# Altium footprint library Connector_Audio.PcbLib: 212 footprints (part 13 of 14)
Each footprint in its own frame and in the unit in brackets; x right, y up, seen from the top. Pads: shape width x height; smd on the part's side, far side on the other; paste and mask are expansions set on the pad; w line width, h text height; cw(c..) or ccw(c..) is an arc to the next point about the centre after c.
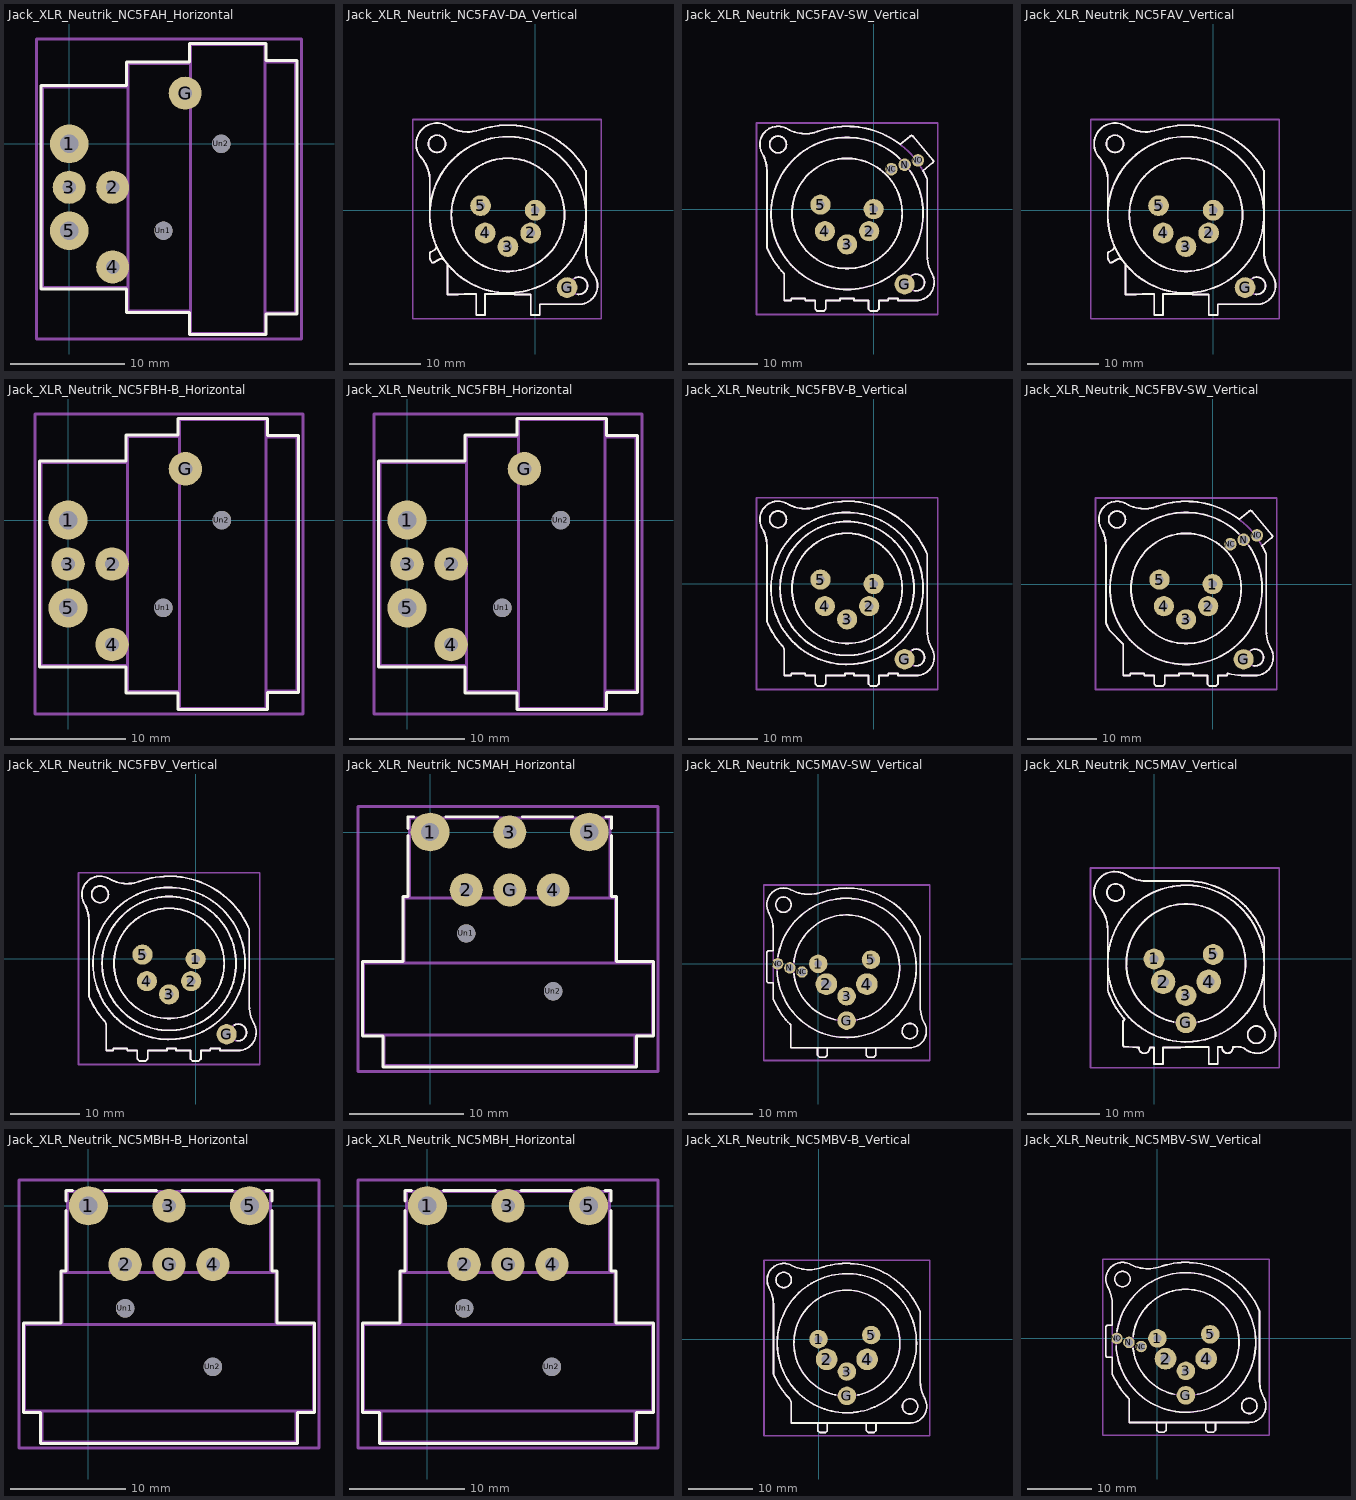
[diagram p12: the footprints below, top view; thin cyan lines are the x and y axes]

## Jack_XLR_Neutrik_NC5FAH_Horizontal [mm]
pads (8):
  round 3.4 hole 1.6: 1(0,0) 5(0,-7.62)
  round 2.9 hole 1.2: 2(3.815,-3.81) 3(0,-3.81) 4(3.815,-10.79) G(10.17,4.44)
  round 1.6 hole 1.6: Un1(8.26,-7.62) Un2(13.34,0)
F.SilkS:
  lines w0.254: -2.47,-12.73 5.03,-12.73 5.03,-14.78 10.53,-14.78 10.53,-16.73 17.27,-16.73 17.27,-14.93 19.97,-14.93 19.97,7.31 17.27,7.31 17.27,8.81 10.53,8.81 10.53,7.16 5.03,7.16 5.03,5.11 -2.47,5.11 -2.47,-12.73
Top Assembly:
  lines w0.254: 5.15,-12.61 -2.35,-12.61 -2.35,4.99 5.15,4.99 ; 10.65,-14.66 5.15,-14.66 5.15,7.04 10.65,7.04 ; 17.15,-14.81 19.85,-14.81 19.85,7.19 17.15,7.19 ; 10.65,-16.61 17.15,-16.61 17.15,8.69 10.65,8.69 10.65,-16.61
  text "'.Designator'" at 10.753,-4.65 h1
Top Courtyard:
  lines w0.254: -2.85,-17.11 20.35,-17.11 20.35,9.19 -2.85,9.19 -2.85,-17.11
Top Designator:
  text ".Designator" at 1.132,-4.468 h1.52
Dwgs.User:
  lines w0.254: 17.15,-16.61 17.15,8.69

## Jack_XLR_Neutrik_NC5FAV-DA_Vertical [mm]
pads (6):
  round 2.9 hole 1.2: 1(0,0) 2(-0.635,-3.175) 3(-3.81,-5.08) 4(-6.985,-3.175) 5(-7.62,0.635) G(4.445,-10.795)
F.SilkS:
  circle w0.254: c-3.81,-0.635 r10.9
  circle w0.254: c-3.81,-0.635 r7.9
  circle w0.254: c-13.71,9.265 r1.2
  lines w0.254: -15.929,7.386 cw(c-19.72,4.11) -14.71,4.13 -14.71,-0.635 ; -15.918,7.373 cw(c-13.71,9.26) -12.15,11.71 ccw(c-9.46,15.93) -10.874,11.13 ; -14.71,-6.01 -14.71,-6.7 ccw(c-14.53,-6.7) -14.683,-6.795 ; -14.71,-6.01 cw(c-14.515,-6.01) -14.61,-5.84 -14,-5.5 ccw(c-14.3,-5.09) -13.802,-4.991 ; -14.68,-6.8 -14.43,-7.24 ccw(c-14.27,-7.15) -14.16,-7.297 ; -14.16,-7.3 -13.27,-6.8 cw(c-13.08,-7.27) -12.722,-6.911 ; -12.268,-7.513 cw(c-12.4,-7.62) -12.23,-7.62 -12.23,-11.76 -10.73,-11.76 -9.89,-11.71 -8.24,-11.71 -8.24,-14.63 -6.99,-14.63 -6.99,-11.71 -3.73,-11.71 -2.89,-11.76 -0.63,-11.76 -0.63,-14.63 0.62,-14.63 0.62,-13.13 6.09,-13.13 ccw(c6.09,-10.53) 8.153,-8.947 ; -10.88,11.13 ccw(c-9.46,15.93) -8.788,10.97 ; -8.843,5.458 cw(c-3.81,-0.635) -5.38,7.11 ccw(c-3.81,-0.635) -6.456,6.812 ; -8.79,10.97 ccw(c-9.46,15.99) -7.954,11.155 ; -7.953,11.155 cw(c-3.81,-0.635) 7.06,5.53 ; -2.235,7.109 cw(c-3.81,-0.635) -1.16,6.81 ; 5.508,-9.483 cw(c6.09,-10.535) 5.86,-11.715 ; 7.056,5.537 cw(c6.87,5.42) 7.09,5.43 7.09,-5.87 ccw(c12.11,-5.86) 8.155,-8.952
Top Assembly:
  circle w0.254: c6.09,-10.535 r1.2
  circle w0.254: c-3.81,-0.635 r10.9
  circle w0.254: c-3.81,-0.635 r7.9
  circle w0.254: c-13.71,9.265 r1.2
  lines w0.254: -15.929,7.386 cw(c-19.72,4.11) -14.71,4.13 -14.71,-0.635 ; -15.918,7.373 cw(c-13.71,9.26) -12.15,11.71 ccw(c-9.46,15.93) -10.874,11.13 ; -14.71,-6.01 -14.71,-6.7 ccw(c-14.53,-6.7) -14.683,-6.795 ; -14.71,-6.01 cw(c-14.515,-6.01) -14.61,-5.84 -14,-5.5 ccw(c-14.3,-5.09) -13.802,-4.991 ; -14.68,-6.8 -14.43,-7.24 ccw(c-14.27,-7.15) -14.16,-7.297 ; -14.16,-7.3 -13.27,-6.8 cw(c-13.08,-7.27) -12.722,-6.911 ; -12.268,-7.513 cw(c-12.4,-7.62) -12.23,-7.62 -12.23,-11.76 -10.73,-11.76 -9.89,-11.71 -8.24,-11.71 -8.24,-14.63 -6.99,-14.63 -6.99,-11.71 -3.73,-11.71 -2.89,-11.76 -0.63,-11.76 -0.63,-14.63 0.62,-14.63 0.62,-13.13 6.09,-13.13 ccw(c6.09,-10.53) 8.153,-8.947 ; -10.88,11.13 ccw(c-9.46,15.93) -8.788,10.97 ; -8.843,5.458 cw(c-3.81,-0.635) -5.38,7.11 ccw(c-3.81,-0.635) -6.456,6.812 ; -8.79,10.97 ccw(c-9.46,15.99) -7.954,11.155 ; -7.953,11.155 cw(c-3.81,-0.635) 7.06,5.53 ; -2.235,7.109 cw(c-3.81,-0.635) -1.16,6.81 ; 7.056,5.537 cw(c6.87,5.42) 7.09,5.43 7.09,-5.87 ccw(c12.11,-5.86) 8.155,-8.952
  text "'.Designator'" at -7.857,-0.475 h1
Top Courtyard:
  lines w0.254: -17.1,-15.13 9.2,-15.13 9.2,12.65 -17.1,12.65 -17.1,-15.13
Top Designator:
  text ".Designator" at -11.568,-1.748 h1.52

## Jack_XLR_Neutrik_NC5FAV-SW_Vertical [mm]
pads (9):
  round 2.9 hole 1.2: 1(0,0) 2(-0.635,-3.175) 3(-3.81,-5.08) 4(-6.985,-3.175) 5(-7.62,0.635) G(4.445,-10.795)
  round 1.8 hole 1.2: N(4.445,6.35) NC(2.54,5.715) NO(6.35,6.985)
F.SilkS:
  circle w0.254: c-3.81,-0.635 r7.9
  circle w0.254: c-13.71,9.265 r1.2
  lines w0.254: -15.98,7.981 cw(c-13.71,9.26) -12.38,11.5 ccw(c-9.82,15.84) -8.091,11.107 ; -15.978,7.98 cw(c-20.32,5.48) -15.31,5.5 -15.31,-5.53 ccw(c-3.81,-0.635) -12.822,-9.295 ; -12.81,-9.31 -12.81,-13.13 -11.81,-13.13 -11.81,-12.83 -9.8,-12.83 -9.8,-13.13 -8.37,-13.13 -8.37,-14.33 -8.07,-14.63 -7.17,-14.63 -6.87,-14.33 -6.87,-13.13 -4.81,-13.13 -4.81,-12.83 -2.81,-12.83 -2.81,-13.13 -0.75,-13.13 -0.75,-14.33 -0.45,-14.63 0.45,-14.63 0.75,-14.33 0.75,-13.13 2.09,-13.13 2.09,-12.83 3.49,-12.83 3.49,-13.13 6.09,-13.13 ccw(c6.09,-10.53) 8.351,-9.246 ; -8.076,11.109 cw(c-3.81,-0.635) 3.82,9.26 5.23,10.45 ; 3.74,7.23 ccw(c-3.81,-0.635) 5.2,5.504 ; 5.235,10.454 cw(c5.43,10.26) 5.66,10.41 8.48,7.04 ; 5.508,-9.483 cw(c6.09,-10.535) 5.86,-11.715 ; 7.09,5.47 8.45,6.62 ccw(c8.31,6.84) 8.486,7.032 ; 7.094,5.473 cw(c-3.81,-0.635) 7.69,4.26 7.69,-6.77 ccw(c12.69,-6.76) 8.352,-9.246 ; 7.25,-12.86 ccw(c6.088,-10.526) 7.299,-12.835
Top Assembly:
  circle w0.254: c6.09,-10.535 r1.2
  circle w0.254: c-3.81,-0.635 r10.9
  circle w0.254: c-3.81,-0.635 r7.9
  circle w0.254: c-13.71,9.265 r1.2
  lines w0.254: -15.98,7.981 cw(c-13.71,9.26) -12.38,11.5 ccw(c-9.82,15.84) -8.091,11.107 ; -15.978,7.98 cw(c-20.32,5.48) -15.31,5.5 -15.31,-5.53 ccw(c-3.81,-0.635) -12.822,-9.295 ; -12.81,-9.31 -12.81,-13.13 -11.81,-13.13 -11.81,-12.83 -9.8,-12.83 -9.8,-13.13 -8.37,-13.13 -8.37,-14.33 -8.07,-14.63 -7.17,-14.63 -6.87,-14.33 -6.87,-13.13 -4.81,-13.13 -4.81,-12.83 -2.81,-12.83 -2.81,-13.13 -0.75,-13.13 -0.75,-14.33 -0.45,-14.63 0.45,-14.63 0.75,-14.33 0.75,-13.13 2.09,-13.13 2.09,-12.83 3.49,-12.83 3.49,-13.13 6.09,-13.13 ccw(c6.09,-10.53) 8.351,-9.246 ; -8.096,11.105 cw(c-3.81,-0.635) 7.69,4.26 7.69,-6.77 ccw(c12.69,-6.76) 8.352,-9.246 ; 3.82,9.26 5.23,10.45 ; 5.235,10.454 cw(c5.43,10.26) 5.66,10.41 8.48,7.04 ; 7.09,5.47 8.45,6.62 ccw(c8.31,6.84) 8.486,7.032 ; 7.25,-12.86 ccw(c6.088,-10.526) 7.299,-12.835
  text "'.Designator'" at -7.857,-0.475 h1
Top Courtyard:
  lines w0.254: -16.8,-15.13 9.2,-15.13 9.2,12.35 -16.8,12.35 -16.8,-15.13
Top Designator:
  text ".Designator" at -11.418,-1.898 h1.52

## Jack_XLR_Neutrik_NC5FAV_Vertical [mm]
pads (6):
  round 2.9 hole 1.2: 1(0,0) 2(-0.635,-3.175) 3(-3.81,-5.08) 4(-6.985,-3.175) 5(-7.62,0.635) G(4.445,-10.795)
F.SilkS:
  circle w0.254: c-3.81,-0.635 r10.9
  circle w0.254: c-3.81,-0.635 r7.9
  circle w0.254: c-13.71,9.265 r1.2
  lines w0.254: -15.929,7.386 cw(c-19.72,4.11) -14.71,4.13 -14.71,-0.635 ; -15.918,7.373 cw(c-13.71,9.26) -12.15,11.71 ccw(c-9.46,15.93) -10.874,11.13 ; -14.71,-6.01 -14.71,-6.7 ccw(c-14.53,-6.7) -14.683,-6.795 ; -14.71,-6.01 cw(c-14.515,-6.01) -14.61,-5.84 -14,-5.5 ccw(c-14.3,-5.09) -13.802,-4.991 ; -14.68,-6.8 -14.43,-7.24 ccw(c-14.27,-7.15) -14.16,-7.297 ; -14.16,-7.3 -13.27,-6.8 cw(c-13.08,-7.27) -12.722,-6.911 ; -12.268,-7.513 cw(c-12.4,-7.62) -12.23,-7.62 -12.23,-11.76 -10.73,-11.76 -9.89,-11.71 -8.24,-11.71 -8.24,-14.63 -6.99,-14.63 -6.99,-11.71 -3.73,-11.71 -2.89,-11.76 -0.63,-11.76 -0.63,-14.63 0.62,-14.63 0.62,-13.13 6.09,-13.13 ccw(c6.09,-10.53) 8.153,-8.947 ; -10.88,11.13 ccw(c-9.46,15.93) -8.788,10.97 ; -8.843,5.458 cw(c-3.81,-0.635) -5.38,7.11 ccw(c-3.81,-0.635) -6.456,6.812 ; -8.79,10.97 ccw(c-9.46,15.99) -7.954,11.155 ; -7.953,11.155 cw(c-3.81,-0.635) 7.06,5.53 ; -2.235,7.109 cw(c-3.81,-0.635) -1.16,6.81 ; 5.508,-9.483 cw(c6.09,-10.535) 5.86,-11.715 ; 7.056,5.537 cw(c6.87,5.42) 7.09,5.43 7.09,-5.87 ccw(c12.11,-5.86) 8.155,-8.952
Top Assembly:
  circle w0.254: c6.09,-10.535 r1.2
  circle w0.254: c-3.81,-0.635 r10.9
  circle w0.254: c-3.81,-0.635 r7.9
  circle w0.254: c-13.71,9.265 r1.2
  lines w0.254: -15.929,7.386 cw(c-19.72,4.11) -14.71,4.13 -14.71,-0.635 ; -15.918,7.373 cw(c-13.71,9.26) -12.15,11.71 ccw(c-9.46,15.93) -10.874,11.13 ; -14.71,-6.01 -14.71,-6.7 ccw(c-14.53,-6.7) -14.683,-6.795 ; -14.71,-6.01 cw(c-14.515,-6.01) -14.61,-5.84 -14,-5.5 ccw(c-14.3,-5.09) -13.802,-4.991 ; -14.68,-6.8 -14.43,-7.24 ccw(c-14.27,-7.15) -14.16,-7.297 ; -14.16,-7.3 -13.27,-6.8 cw(c-13.08,-7.27) -12.722,-6.911 ; -12.268,-7.513 cw(c-12.4,-7.62) -12.23,-7.62 -12.23,-11.76 -10.73,-11.76 -9.89,-11.71 -8.24,-11.71 -8.24,-14.63 -6.99,-14.63 -6.99,-11.71 -3.73,-11.71 -2.89,-11.76 -0.63,-11.76 -0.63,-14.63 0.62,-14.63 0.62,-13.13 6.09,-13.13 ccw(c6.09,-10.53) 8.153,-8.947 ; -10.88,11.13 ccw(c-9.46,15.93) -8.788,10.97 ; -8.843,5.458 cw(c-3.81,-0.635) -5.38,7.11 ccw(c-3.81,-0.635) -6.456,6.812 ; -8.79,10.97 ccw(c-9.46,15.99) -7.954,11.155 ; -7.953,11.155 cw(c-3.81,-0.635) 7.06,5.53 ; -2.235,7.109 cw(c-3.81,-0.635) -1.16,6.81 ; 7.056,5.537 cw(c6.87,5.42) 7.09,5.43 7.09,-5.87 ccw(c12.11,-5.86) 8.155,-8.952
  text "'.Designator'" at -7.857,-0.475 h1
Top Courtyard:
  lines w0.254: -17.1,-15.13 9.2,-15.13 9.2,12.65 -17.1,12.65 -17.1,-15.13
Top Designator:
  text ".Designator" at -11.568,-1.748 h1.52

## Jack_XLR_Neutrik_NC5FBH-B_Horizontal [mm]
pads (8):
  round 3.4 hole 1.6: 1(0,0) 5(0,-7.62)
  round 2.9 hole 1.2: 2(3.815,-3.81) 3(0,-3.81) 4(3.815,-10.79) G(10.17,4.44)
  round 1.6 hole 1.6: Un1(8.26,-7.62) Un2(13.34,0)
F.SilkS:
  lines w0.254: -2.47,-12.73 5.03,-12.73 5.03,-14.98 9.53,-14.98 9.53,-16.43 17.27,-16.43 17.27,-14.93 19.97,-14.93 19.97,7.31 17.27,7.31 17.27,8.81 9.53,8.81 9.53,7.36 5.03,7.36 5.03,5.11 -2.47,5.11 -2.47,-12.73
Top Assembly:
  lines w0.254: 5.15,-12.61 -2.35,-12.61 -2.35,4.99 5.15,4.99 ; 9.65,-14.86 5.15,-14.86 5.15,7.24 9.65,7.24 ; 17.15,-14.81 19.85,-14.81 19.85,7.19 17.15,7.19 ; 9.65,-16.31 17.15,-16.31 17.15,8.69 9.65,8.69 9.65,-16.31
  text "'.Designator'" at 10.753,-4.65 h1
Top Courtyard:
  lines w0.254: -2.85,-16.81 20.35,-16.81 20.35,9.19 -2.85,9.19 -2.85,-16.81
Top Designator:
  text ".Designator" at 1.132,-4.318 h1.52
Dwgs.User:
  lines w0.254: 17.15,-16.31 17.15,8.69

## Jack_XLR_Neutrik_NC5FBH_Horizontal [mm]
pads (8):
  round 3.4 hole 1.6: 1(0,0) 5(0,-7.62)
  round 2.9 hole 1.2: 2(3.815,-3.81) 3(0,-3.81) 4(3.815,-10.79) G(10.17,4.44)
  round 1.6 hole 1.6: Un1(8.26,-7.62) Un2(13.34,0)
F.SilkS:
  lines w0.254: -2.47,-12.73 5.03,-12.73 5.03,-14.98 9.53,-14.98 9.53,-16.43 17.27,-16.43 17.27,-14.93 19.97,-14.93 19.97,7.31 17.27,7.31 17.27,8.81 9.53,8.81 9.53,7.36 5.03,7.36 5.03,5.11 -2.47,5.11 -2.47,-12.73
Top Assembly:
  lines w0.254: 5.15,-12.61 -2.35,-12.61 -2.35,4.99 5.15,4.99 ; 9.65,-14.86 5.15,-14.86 5.15,7.24 9.65,7.24 ; 17.15,-14.81 19.85,-14.81 19.85,7.19 17.15,7.19 ; 9.65,-16.31 17.15,-16.31 17.15,8.69 9.65,8.69 9.65,-16.31
  text "'.Designator'" at 10.753,-4.65 h1
Top Courtyard:
  lines w0.254: -2.85,-16.81 20.35,-16.81 20.35,9.19 -2.85,9.19 -2.85,-16.81
Top Designator:
  text ".Designator" at 1.132,-4.318 h1.52
Dwgs.User:
  lines w0.254: 17.15,-16.31 17.15,8.69

## Jack_XLR_Neutrik_NC5FBV-B_Vertical [mm]
pads (6):
  round 2.9 hole 1.2: 1(0,0) 2(-0.635,-3.175) 3(-3.81,-5.08) 4(-6.985,-3.175) 5(-7.62,0.635) G(4.445,-10.795)
F.SilkS:
  circle w0.254: c-3.81,-0.635 r10.9
  circle w0.254: c-3.81,-0.635 r9.6
  circle w0.254: c-3.81,-0.635 r7.9
  circle w0.254: c-13.71,9.265 r1.2
  lines w0.254: -15.978,7.98 cw(c-20.32,5.48) -15.31,5.5 -15.31,-5.33 ccw(c-3.81,-0.635) -13.054,-8.932 ; -15.971,7.965 cw(c-13.71,9.26) -12.38,11.5 ccw(c-9.82,15.83) -8.099,11.103 ; -13.064,-8.922 cw(c-13.79,-9.58) -12.81,-9.58 -12.81,-13.13 -11.81,-13.13 -11.81,-12.83 -9.8,-12.83 -9.8,-13.13 -8.37,-13.13 -8.37,-14.33 -8.07,-14.63 -7.17,-14.63 -6.87,-14.33 -6.87,-13.13 -4.09,-13.13 -4.09,-12.83 -2.81,-12.83 -2.81,-13.13 -0.75,-13.13 -0.75,-14.33 -0.45,-14.63 0.44,-14.63 0.75,-14.33 0.75,-13.13 2.08,-13.13 2.08,-12.83 3.49,-12.83 3.49,-13.13 6.09,-13.13 ccw(c6.09,-10.53) 8.348,-9.242 ; -8.117,11.098 cw(c-3.81,-0.635) 7.69,4.26 7.69,-6.77 ccw(c12.69,-6.76) 8.352,-9.246 ; 5.555,-9.461 cw(c6.09,-10.535) 5.9,-11.72
Top Assembly:
  circle w0.254: c6.09,-10.535 r1.2
  circle w0.254: c-3.81,-0.635 r10.9
  circle w0.254: c-3.81,-0.635 r9.6
  circle w0.254: c-3.81,-0.635 r7.9
  circle w0.254: c-13.71,9.265 r1.2
  lines w0.254: -15.978,7.98 cw(c-20.32,5.48) -15.31,5.5 -15.31,-5.33 ccw(c-3.81,-0.635) -13.054,-8.932 ; -15.971,7.965 cw(c-13.71,9.26) -12.38,11.5 ccw(c-9.82,15.83) -8.099,11.103 ; -13.064,-8.922 cw(c-13.79,-9.58) -12.81,-9.58 -12.81,-13.13 -11.81,-13.13 -11.81,-12.83 -9.8,-12.83 -9.8,-13.13 -8.37,-13.13 -8.37,-14.33 -8.07,-14.63 -7.17,-14.63 -6.87,-14.33 -6.87,-13.13 -4.09,-13.13 -4.09,-12.83 -2.81,-12.83 -2.81,-13.13 -0.75,-13.13 -0.75,-14.33 -0.45,-14.63 0.44,-14.63 0.75,-14.33 0.75,-13.13 2.08,-13.13 2.08,-12.83 3.49,-12.83 3.49,-13.13 6.09,-13.13 ccw(c6.09,-10.53) 8.348,-9.242 ; -8.117,11.098 cw(c-3.81,-0.635) 7.69,4.26 7.69,-6.77 ccw(c12.69,-6.76) 8.352,-9.246
  text "'.Designator'" at -7.857,-0.475 h1
Top Courtyard:
  lines w0.254: -16.8,-15.13 9.2,-15.13 9.2,12.35 -16.8,12.35 -16.8,-15.13
Top Designator:
  text ".Designator" at -11.418,-1.898 h1.52

## Jack_XLR_Neutrik_NC5FBV-SW_Vertical [mm]
pads (9):
  round 2.9 hole 1.2: 1(0,0) 2(-0.635,-3.175) 3(-3.81,-5.08) 4(-6.985,-3.175) 5(-7.62,0.635) G(4.445,-10.795)
  round 1.8 hole 1.2: N(4.445,6.35) NC(2.54,5.715) NO(6.35,6.985)
F.SilkS:
  circle w0.254: c-3.81,-0.635 r7.9
  circle w0.254: c-13.71,9.265 r1.2
  lines w0.254: -15.98,7.981 cw(c-13.71,9.26) -12.38,11.5 ccw(c-9.82,15.84) -8.091,11.107 ; -15.978,7.98 cw(c-20.32,5.48) -15.31,5.5 -15.31,-5.53 ccw(c-3.81,-0.635) -14.767,-6.648 ; -14.76,-6.66 -12.81,-8.61 -12.81,-13.13 -11.81,-13.13 -11.81,-12.83 -9.8,-12.83 -9.8,-13.13 -8.37,-13.13 -8.37,-14.33 -8.07,-14.63 -7.17,-14.63 -6.87,-14.33 -6.87,-13.13 -4.81,-13.13 -4.81,-12.83 -2.81,-12.83 -2.81,-13.13 -0.75,-13.13 -0.75,-14.33 -0.45,-14.63 0.45,-14.63 0.75,-14.33 0.75,-13.13 2.09,-13.13 2.09,-12.83 2.19,-12.83 ccw(c4.62,-3.13) 4.626,-13.13 ; -8.076,11.109 cw(c-3.81,-0.635) 3.82,9.26 5.23,10.45 ; 3.74,7.23 ccw(c-3.81,-0.635) 5.2,5.504 ; 4.62,-13.13 6.09,-13.13 ccw(c6.09,-10.53) 8.351,-9.246 ; 5.235,10.454 cw(c5.43,10.26) 5.66,10.41 8.48,7.04 ; 5.508,-9.483 cw(c6.09,-10.535) 5.86,-11.715 ; 7.09,5.47 8.45,6.62 ccw(c8.31,6.84) 8.486,7.032 ; 7.094,5.473 cw(c-3.81,-0.635) 7.69,4.26 7.69,-6.77 ccw(c12.69,-6.76) 8.352,-9.246 ; 7.25,-12.86 ccw(c6.088,-10.526) 7.299,-12.835
Top Assembly:
  circle w0.254: c6.09,-10.535 r1.2
  circle w0.254: c-3.81,-0.635 r10.9
  circle w0.254: c-3.81,-0.635 r7.9
  circle w0.254: c-13.71,9.265 r1.2
  lines w0.254: -15.98,7.981 cw(c-13.71,9.26) -12.38,11.5 ccw(c-9.82,15.84) -8.091,11.107 ; -15.978,7.98 cw(c-20.32,5.48) -15.31,5.5 -15.31,-5.53 ccw(c-3.81,-0.635) -14.767,-6.648 ; -14.76,-6.66 -12.81,-8.61 -12.81,-13.13 -11.81,-13.13 -11.81,-12.83 -9.8,-12.83 -9.8,-13.13 -8.37,-13.13 -8.37,-14.33 -8.07,-14.63 -7.17,-14.63 -6.87,-14.33 -6.87,-13.13 -4.81,-13.13 -4.81,-12.83 -2.81,-12.83 -2.81,-13.13 -0.75,-13.13 -0.75,-14.33 -0.45,-14.63 0.45,-14.63 0.75,-14.33 0.75,-13.13 2.09,-13.13 2.09,-12.83 2.19,-12.83 ccw(c4.62,-3.13) 4.626,-13.13 ; -8.096,11.105 cw(c-3.81,-0.635) 7.69,4.26 7.69,-6.77 ccw(c12.69,-6.76) 8.352,-9.246 ; 3.82,9.26 5.23,10.45 ; 4.62,-13.13 6.09,-13.13 ccw(c6.09,-10.53) 8.351,-9.246 ; 5.235,10.454 cw(c5.43,10.26) 5.66,10.41 8.48,7.04 ; 7.09,5.47 8.45,6.62 ccw(c8.31,6.84) 8.486,7.032 ; 7.25,-12.86 ccw(c6.088,-10.526) 7.299,-12.835
  text "'.Designator'" at -7.857,-0.475 h1
Top Courtyard:
  lines w0.254: -16.8,-15.13 9.2,-15.13 9.2,12.35 -16.8,12.35 -16.8,-15.13
Top Designator:
  text ".Designator" at -11.418,-1.898 h1.52

## Jack_XLR_Neutrik_NC5FBV_Vertical [mm]
pads (6):
  round 2.9 hole 1.2: 1(0,0) 2(-0.635,-3.175) 3(-3.81,-5.08) 4(-6.985,-3.175) 5(-7.62,0.635) G(4.445,-10.795)
F.SilkS:
  circle w0.254: c-3.81,-0.635 r10.9
  circle w0.254: c-3.81,-0.635 r9.6
  circle w0.254: c-3.81,-0.635 r7.9
  circle w0.254: c-13.71,9.265 r1.2
  lines w0.254: -15.978,7.98 cw(c-20.32,5.48) -15.31,5.5 -15.31,-5.33 ccw(c-3.81,-0.635) -13.054,-8.932 ; -15.971,7.965 cw(c-13.71,9.26) -12.38,11.5 ccw(c-9.82,15.83) -8.099,11.103 ; -13.064,-8.922 cw(c-13.79,-9.58) -12.81,-9.58 -12.81,-13.13 -11.81,-13.13 -11.81,-12.83 -9.8,-12.83 -9.8,-13.13 -8.37,-13.13 -8.37,-14.33 -8.07,-14.63 -7.17,-14.63 -6.87,-14.33 -6.87,-13.13 -4.09,-13.13 -4.09,-12.83 -2.81,-12.83 -2.81,-13.13 -0.75,-13.13 -0.75,-14.33 -0.45,-14.63 0.44,-14.63 0.75,-14.33 0.75,-13.13 2.08,-13.13 2.08,-12.83 3.49,-12.83 3.49,-13.13 6.09,-13.13 ccw(c6.09,-10.53) 8.348,-9.242 ; -8.117,11.098 cw(c-3.81,-0.635) 7.69,4.26 7.69,-6.77 ccw(c12.69,-6.76) 8.352,-9.246 ; 5.555,-9.461 cw(c6.09,-10.535) 5.9,-11.72
Top Assembly:
  circle w0.254: c6.09,-10.535 r1.2
  circle w0.254: c-3.81,-0.635 r10.9
  circle w0.254: c-3.81,-0.635 r9.6
  circle w0.254: c-3.81,-0.635 r7.9
  circle w0.254: c-13.71,9.265 r1.2
  lines w0.254: -15.978,7.98 cw(c-20.32,5.48) -15.31,5.5 -15.31,-5.33 ccw(c-3.81,-0.635) -13.054,-8.932 ; -15.971,7.965 cw(c-13.71,9.26) -12.38,11.5 ccw(c-9.82,15.83) -8.099,11.103 ; -13.064,-8.922 cw(c-13.79,-9.58) -12.81,-9.58 -12.81,-13.13 -11.81,-13.13 -11.81,-12.83 -9.8,-12.83 -9.8,-13.13 -8.37,-13.13 -8.37,-14.33 -8.07,-14.63 -7.17,-14.63 -6.87,-14.33 -6.87,-13.13 -4.09,-13.13 -4.09,-12.83 -2.81,-12.83 -2.81,-13.13 -0.75,-13.13 -0.75,-14.33 -0.45,-14.63 0.44,-14.63 0.75,-14.33 0.75,-13.13 2.08,-13.13 2.08,-12.83 3.49,-12.83 3.49,-13.13 6.09,-13.13 ccw(c6.09,-10.53) 8.348,-9.242 ; -8.117,11.098 cw(c-3.81,-0.635) 7.69,4.26 7.69,-6.77 ccw(c12.69,-6.76) 8.352,-9.246
  text "'.Designator'" at -7.857,-0.475 h1
Top Courtyard:
  lines w0.254: -16.8,-15.13 9.2,-15.13 9.2,12.35 -16.8,12.35 -16.8,-15.13
Top Designator:
  text ".Designator" at -11.418,-1.898 h1.52

## Jack_XLR_Neutrik_NC5MAH_Horizontal [mm]
pads (8):
  round 3.4 hole 1.6: 1(0,0) 5(13.96,0)
  round 2.9 hole 1.2: 2(3.17,-5.08) 3(6.98,0) 4(10.79,-5.08) G(6.98,-5.08)
  round 1.6 hole 1.6: Un1(3.17,-8.89) Un2(10.79,-13.97)
F.SilkS:
  lines w0.254: -1.94,-0.3 -1.94,-5.66 -2.39,-5.66 -2.39,-11.36 -5.94,-11.36 -5.94,-17.9 -4.14,-17.9 -4.14,-20.6 18.1,-20.6 18.1,-17.9 19.6,-17.9 19.6,-11.36 16.35,-11.36 16.35,-5.66 15.9,-5.66 15.9,-0.3 ; -1.94,0.3 -1.94,1.34 -1.45,1.34 ; 1.4,1.34 5.9,1.34 ; 8.1,1.34 12.5,1.34 ; 15.4,1.34 15.9,1.34 15.9,0.3
Top Assembly:
  lines w0.254: -4.02,-17.78 -4.02,-20.48 17.98,-20.48 17.98,-17.78 ; -2.27,-11.48 -2.27,-5.78 16.23,-5.78 16.23,-11.48 ; -1.82,-5.78 -1.82,1.22 15.78,1.22 15.78,-5.78 ; -5.82,-17.78 19.48,-17.78 19.48,-11.48 -5.82,-11.48 -5.82,-17.78
  text "'.Designator'" at 2.933,-16.27 h1
Top Courtyard:
  lines w0.254: -6.32,-20.98 19.98,-20.98 19.98,2.22 -6.32,2.22 -6.32,-20.98
Top Designator:
  text ".Designator" at -0.788,-9.888 h1.52
Dwgs.User:
  lines w0.254: -5.82,-17.78 19.48,-17.78

## Jack_XLR_Neutrik_NC5MAV-SW_Vertical [mm]
pads (9):
  round 2.9 hole 1.2: 1(0,0) 3(4.445,-5.08) 5(8.255,0.635) G(4.445,-8.89)
  round 3.4 hole 1.6: 2(1.27,-3.175) 4(7.62,-3.175)
  round 1.8 hole 1.2: N(-4.445,-0.635) NC(-2.54,-1.27) NO(-6.35,0)
F.SilkS:
  circle w0.254: c14.345,-10.535 r1.2
  circle w0.254: c-5.455,9.265 r1.2
  lines w0.254: -7.723,7.985 cw(c-13.02,5.24) -7.06,5.5 -7.06,2.04 -7.76,2.04 ccw(c-7.76,1.74) -8.06,1.74 -8.06,-2.66 ccw(c-7.76,-2.66) -7.76,-2.96 -7.06,-2.96 -7.06,-5.53 ccw(c4.445,-0.635) -4.311,-9.56 ; -7.715,7.97 cw(c-5.45,9.265) -4.12,11.51 ccw(c-1.46,16.9) 0.18,11.117 ; -6.442,-1.173 ccw(c4.445,-0.635) -6.31,1.14 ; -4.3,-9.58 -4.3,-13.13 14.34,-13.13 ccw(c14.34,-10.53) 16.614,-9.269 ; -3.803,-1.545 ccw(c4.445,-0.635) 2.62,-8.73 ; -3.8,0.3 cw(c4.445,-0.635) 6.203,-8.745 ; -0.11,-13.13 -0.11,-14.33 0.19,-14.63 1.09,-14.63 1.39,-14.33 1.39,-13.13 ; 0.179,11.118 cw(c4.445,-0.635) 15.95,4.26 15.95,-6.77 ccw(c21.97,-6.51) 16.619,-9.28 ; 7.5,-13.13 7.5,-14.33 7.8,-14.63 8.7,-14.63 9,-14.33 9,-13.13
Top Assembly:
  circle w0.254: c14.345,-10.535 r1.2
  circle w0.254: c4.445,-0.635 r10.9
  circle w0.254: c4.445,-0.635 r8.3
  circle w0.254: c-5.455,9.265 r1.2
  lines w0.254: -7.723,7.985 cw(c-13.02,5.24) -7.06,5.5 -7.06,-5.53 ccw(c4.445,-0.635) -4.311,-9.56 ; -7.715,7.97 cw(c-5.45,9.265) -4.12,11.51 ccw(c-1.46,16.9) 0.18,11.117 ; -7.06,-2.96 -7.76,-2.96 cw(c-7.76,-2.66) -8.06,-2.66 -8.06,1.74 cw(c-7.76,1.74) -7.76,2.04 -7.06,2.04 ; -4.3,-9.58 -4.3,-13.13 14.34,-13.13 ccw(c14.34,-10.53) 16.614,-9.269 ; -0.11,-13.13 -0.11,-14.33 0.19,-14.63 1.09,-14.63 1.39,-14.33 1.39,-13.13 ; 0.179,11.118 cw(c4.445,-0.635) 15.95,4.26 15.95,-6.77 ccw(c21.97,-6.51) 16.619,-9.28 ; 7.5,-13.13 7.5,-14.33 7.8,-14.63 8.7,-14.63 9,-14.33 9,-13.13
  text "'.Designator'" at 0.398,-0.475 h1
Top Courtyard:
  lines w0.254: -8.55,-15.13 17.45,-15.13 17.45,12.35 -8.55,12.35 -8.55,-15.13
Top Designator:
  text ".Designator" at -3.168,-1.898 h1.52

## Jack_XLR_Neutrik_NC5MAV_Vertical [mm]
pads (6):
  round 2.9 hole 1.2: 1(0,0) 3(4.445,-5.08) 5(8.255,0.635) G(4.445,-8.885)
  round 3.4 hole 1.6: 2(1.27,-3.175) 4(7.62,-3.175)
F.SilkS:
  circle w0.254: c14.245,-10.535 r1.2
  circle w0.254: c4.445,-0.635 r10.9
  circle w0.254: c-5.355,9.265 r1.2
  lines w0.254: -7.658,7.375 cw(c-11.44,4.12) -6.45,4.13 -6.45,-4.32 ccw(c4.445,-0.635) -4.184,-8.239 ; -7.652,7.366 cw(c-5.45,9.26) -3.86,11.69 ccw(c-1.11,15.83) -1.109,10.86 4.445,10.86 ; -4.3,-12.04 -4.3,-12.03 ; -4.3,-8.61 -4.3,-12.03 ; -4.298,-8.605 ccw(c-4.34,-8.39) -4.18,-8.24 ; -0.6,-12.302 cw(c-1.35,-12.38) -2.1,-12.3 -2.41,-12.3 -3.54,-12.23 -4.1,-12.23 cw(c-4.1,-12.03) -4.3,-12.03 ; -0.6,-12.3 0,-12.3 0,-14.63 1.26,-14.63 1.26,-12.3 3.68,-12.3 4.4,-12.26 7.63,-12.26 7.63,-14.63 8.88,-14.63 8.88,-12.26 9.51,-12.26 ccw(c10.24,-12.38) 10.968,-12.251 ; 2.7,-8.75 cw(c4.445,-0.635) 6.166,-8.755 ; 4.446,10.86 cw(c4.445,-0.635) 15.34,3.03 15.34,-5.87 ccw(c20.34,-5.87) 16.392,-8.939 ; 10.97,-12.25 11.3,-12.25 11.62,-12.23 11.83,-12.23 ; 11.832,-12.23 cw(c11.78,-13.73) 12.72,-12.56 ccw(c14.34,-10.53) 16.386,-8.931
Top Assembly:
  circle w0.254: c14.245,-10.535 r1.2
  circle w0.254: c4.445,-0.635 r10.9
  circle w0.254: c4.445,-0.635 r8.3
  circle w0.254: c-5.355,9.265 r1.2
  lines w0.254: -7.658,7.375 cw(c-11.44,4.12) -6.45,4.13 -6.45,-4.32 ccw(c4.445,-0.635) -4.184,-8.239 ; -7.652,7.366 cw(c-5.45,9.26) -3.86,11.69 ccw(c-1.11,15.83) -1.109,10.86 4.445,10.86 ; -4.3,-12.04 -4.3,-12.03 ; -4.3,-8.61 -4.3,-12.03 ; -4.298,-8.605 ccw(c-4.34,-8.39) -4.18,-8.24 ; -0.6,-12.302 cw(c-1.35,-12.38) -2.1,-12.3 -2.41,-12.3 -3.54,-12.23 -4.1,-12.23 cw(c-4.1,-12.03) -4.3,-12.03 ; -0.6,-12.3 0,-12.3 0,-14.63 1.26,-14.63 1.26,-12.3 3.68,-12.3 4.4,-12.26 7.63,-12.26 7.63,-14.63 8.88,-14.63 8.88,-12.26 9.51,-12.26 ccw(c10.24,-12.38) 10.968,-12.251 ; 4.446,10.86 cw(c4.445,-0.635) 15.34,3.03 15.34,-5.87 ccw(c20.34,-5.87) 16.392,-8.939 ; 10.97,-12.25 11.3,-12.25 11.62,-12.23 11.83,-12.23 ; 11.832,-12.23 cw(c11.78,-13.73) 12.72,-12.56 ccw(c14.34,-10.53) 16.386,-8.931
  text "'.Designator'" at 0.398,-0.475 h1
Top Courtyard:
  lines w0.254: -8.85,-15.13 17.45,-15.13 17.45,12.65 -8.85,12.65 -8.85,-15.13
Top Designator:
  text ".Designator" at -3.318,-1.748 h1.52

## Jack_XLR_Neutrik_NC5MBH-B_Horizontal [mm]
pads (8):
  round 3.4 hole 1.6: 1(0,0) 5(13.96,0)
  round 2.9 hole 1.2: 2(3.17,-5.08) 3(6.98,0) 4(10.79,-5.08) G(6.98,-5.08)
  round 1.6 hole 1.6: Un1(3.17,-8.89) Un2(10.79,-13.97)
F.SilkS:
  lines w0.254: -1.94,-0.4 -1.94,-5.66 -2.39,-5.66 -2.39,-10.16 -5.64,-10.16 -5.64,-17.9 -4.14,-17.9 -4.14,-20.6 18.1,-20.6 18.1,-17.9 19.6,-17.9 19.6,-10.16 16.35,-10.16 16.35,-5.66 15.9,-5.66 15.9,-0.4 ; -1.94,0.4 -1.94,1.34 -1.4,1.34 ; 1.4,1.34 5.9,1.34 ; 8.1,1.34 12.5,1.34 ; 15.4,1.34 15.9,1.34 15.9,0.4
Top Assembly:
  lines w0.254: -4.02,-17.78 -4.02,-20.48 17.98,-20.48 17.98,-17.78 ; -2.27,-10.28 -2.27,-5.78 16.23,-5.78 16.23,-10.28 ; -1.82,-5.78 -1.82,1.22 15.78,1.22 15.78,-5.78 ; -5.52,-17.78 19.48,-17.78 19.48,-10.28 -5.52,-10.28 -5.52,-17.78
  text "'.Designator'" at 2.933,-16.27 h1
Top Courtyard:
  lines w0.254: -6.02,-20.98 19.98,-20.98 19.98,2.22 -6.02,2.22 -6.02,-20.98
Top Designator:
  text ".Designator" at -0.638,-9.888 h1.52
Dwgs.User:
  lines w0.254: -5.52,-17.78 19.48,-17.78

## Jack_XLR_Neutrik_NC5MBH_Horizontal [mm]
pads (8):
  round 3.4 hole 1.6: 1(0,0) 5(13.96,0)
  round 2.9 hole 1.2: 2(3.17,-5.08) 3(6.98,0) 4(10.79,-5.08) G(6.98,-5.08)
  round 1.6 hole 1.6: Un1(3.17,-8.89) Un2(10.79,-13.97)
F.SilkS:
  lines w0.254: -1.94,-0.4 -1.94,-5.66 -2.39,-5.66 -2.39,-10.16 -5.64,-10.16 -5.64,-17.9 -4.14,-17.9 -4.14,-20.6 18.1,-20.6 18.1,-17.9 19.6,-17.9 19.6,-10.16 16.35,-10.16 16.35,-5.66 15.9,-5.66 15.9,-0.4 ; -1.94,0.4 -1.94,1.34 -1.4,1.34 ; 1.4,1.34 5.9,1.34 ; 8.1,1.34 12.5,1.34 ; 15.4,1.34 15.9,1.34 15.9,0.4
Top Assembly:
  lines w0.254: -4.02,-17.78 -4.02,-20.48 17.98,-20.48 17.98,-17.78 ; -2.27,-10.28 -2.27,-5.78 16.23,-5.78 16.23,-10.28 ; -1.82,-5.78 -1.82,1.22 15.78,1.22 15.78,-5.78 ; -5.52,-17.78 19.48,-17.78 19.48,-10.28 -5.52,-10.28 -5.52,-17.78
  text "'.Designator'" at 2.933,-16.27 h1
Top Courtyard:
  lines w0.254: -6.02,-20.98 19.98,-20.98 19.98,2.22 -6.02,2.22 -6.02,-20.98
Top Designator:
  text ".Designator" at -0.638,-9.888 h1.52
Dwgs.User:
  lines w0.254: -5.52,-17.78 19.48,-17.78

## Jack_XLR_Neutrik_NC5MBV-B_Vertical [mm]
pads (6):
  round 2.9 hole 1.2: 1(0,0) 3(4.445,-5.08) 5(8.255,0.635) G(4.445,-8.89)
  round 3.4 hole 1.6: 2(1.27,-3.175) 4(7.62,-3.175)
F.SilkS:
  circle w0.254: c14.345,-10.535 r1.2
  circle w0.254: c4.445,-0.635 r10.9
  circle w0.254: c-5.455,9.265 r1.2
  lines w0.254: -7.706,7.969 cw(c-13.04,5.23) -7.05,5.5 -7.05,-5.53 ccw(c4.445,-0.635) -4.578,-9.277 ; -7.702,7.96 cw(c-5.45,9.26) -4.13,11.5 ccw(c-1.46,16.94) 0.155,11.099 ; -4.577,-9.279 cw(c-5.3,-9.97) -4.3,-9.97 -4.3,-13.13 14.34,-13.13 ccw(c14.34,-10.53) 15.549,-12.832 ; -0.11,-13.13 -0.11,-14.33 0.19,-14.63 1.09,-14.63 1.39,-14.33 1.39,-13.13 ; 0.158,11.1 cw(c4.445,-0.635) 15.94,4.26 15.94,-6.77 ; 2.7,-8.75 cw(c4.445,-0.635) 6.166,-8.755 ; 7.5,-13.13 7.5,-14.33 7.8,-14.63 8.7,-14.63 9,-14.33 9,-13.13 ; 15.56,-12.83 ccw(c14.34,-10.53) 16.603,-9.242 ; 15.95,-6.77 ccw(c21.95,-6.51) 16.608,-9.253
Top Assembly:
  circle w0.254: c14.345,-10.535 r1.2
  circle w0.254: c4.445,-0.635 r10.9
  circle w0.254: c4.445,-0.635 r8.3
  circle w0.254: c-5.455,9.265 r1.2
  lines w0.254: -7.706,7.969 cw(c-13.04,5.23) -7.05,5.5 -7.05,-5.53 ccw(c4.445,-0.635) -4.578,-9.277 ; -7.702,7.96 cw(c-5.45,9.26) -4.13,11.5 ccw(c-1.46,16.94) 0.155,11.099 ; -4.577,-9.279 cw(c-5.3,-9.97) -4.3,-9.97 -4.3,-13.13 14.34,-13.13 ccw(c14.35,-10.53) 16.565,-9.168 ; -0.11,-13.13 -0.11,-14.33 0.19,-14.63 1.09,-14.63 1.39,-14.33 1.39,-13.13 ; 0.158,11.1 cw(c4.445,-0.635) 15.94,4.26 15.94,-6.77 ; 7.5,-13.13 7.5,-14.33 7.8,-14.63 8.7,-14.63 9,-14.33 9,-13.13 ; 15.95,-6.77 ccw(c21.95,-6.51) 16.574,-9.188
  text "'.Designator'" at 0.398,-0.475 h1
Top Courtyard:
  lines w0.254: -8.55,-15.13 17.45,-15.13 17.45,12.35 -8.55,12.35 -8.55,-15.13
Top Designator:
  text ".Designator" at -3.168,-1.898 h1.52

## Jack_XLR_Neutrik_NC5MBV-SW_Vertical [mm]
pads (9):
  round 2.9 hole 1.2: 1(0,0) 3(4.445,-5.08) 5(8.255,0.635) G(4.445,-8.89)
  round 3.4 hole 1.6: 2(1.27,-3.175) 4(7.62,-3.175)
  round 1.8 hole 1.2: N(-4.445,-0.635) NC(-2.54,-1.27) NO(-6.35,0)
F.SilkS:
  circle w0.254: c14.345,-10.535 r1.2
  circle w0.254: c-5.455,9.265 r1.2
  lines w0.254: -6.442,-1.173 ccw(c4.445,-0.635) -6.31,1.14 ; -4.379,-9.48 cw(c4.445,-0.635) -7.05,-5.53 -7.05,-2.96 -7.75,-2.96 cw(c-7.75,-2.66) -8.05,-2.66 -8.05,1.74 cw(c-7.75,1.74) -7.75,2.04 -7.05,2.04 -7.05,5.5 ccw(c-13,5.22) -7.707,7.951 cw(c-5.45,9.26) -4.13,11.51 ccw(c-1.46,16.81) 0.152,11.099 ; -4.37,-9.49 -4.37,-13.13 14.34,-13.13 ccw(c14.34,-10.53) 16.598,-9.242 cw(c21.91,-6.51) 15.94,-6.7 15.94,4.26 ccw(c4.445,-0.635) 0.158,11.1 ; -3.803,-1.545 ccw(c4.445,-0.635) 2.62,-8.73 ; -3.8,0.3 cw(c4.445,-0.635) 6.203,-8.745 ; -0.11,-13.13 -0.11,-14.33 0.19,-14.63 1.09,-14.63 1.39,-14.33 1.39,-13.13 ; 7.57,-13.13 7.57,-14.33 7.87,-14.63 8.77,-14.63 9.07,-14.33 9.07,-13.13
Top Assembly:
  circle w0.254: c14.345,-10.535 r1.2
  circle w0.254: c4.445,-0.635 r10.9
  circle w0.254: c4.445,-0.635 r8.3
  circle w0.254: c-5.455,9.265 r1.2
  lines w0.254: -7.05,-2.96 -7.75,-2.96 cw(c-7.75,-2.66) -8.05,-2.66 -8.05,1.74 cw(c-7.75,1.74) -7.75,2.04 -7.05,2.04 ; -4.379,-9.48 cw(c4.445,-0.635) -7.05,-5.53 -7.05,5.5 ccw(c-13,5.22) -7.707,7.951 cw(c-5.45,9.26) -4.13,11.51 ccw(c-1.46,16.81) 0.152,11.099 ; -4.37,-9.49 -4.37,-13.13 14.34,-13.13 ccw(c14.34,-10.53) 16.598,-9.242 cw(c21.91,-6.51) 15.94,-6.7 15.94,4.26 ccw(c4.445,-0.635) 0.158,11.1 ; -0.11,-13.13 -0.11,-14.33 0.19,-14.63 1.09,-14.63 1.39,-14.33 1.39,-13.13 ; 7.57,-13.13 7.57,-14.33 7.87,-14.63 8.77,-14.63 9.07,-14.33 9.07,-13.13
  text "'.Designator'" at 0.398,-0.475 h1
Top Courtyard:
  lines w0.254: -8.55,-15.13 17.45,-15.13 17.45,12.35 -8.55,12.35 -8.55,-15.13
Top Designator:
  text ".Designator" at -3.168,-1.898 h1.52